# EAGLE library part SPARKFUN.LCD-14072 (library LinnesLab-Displays)
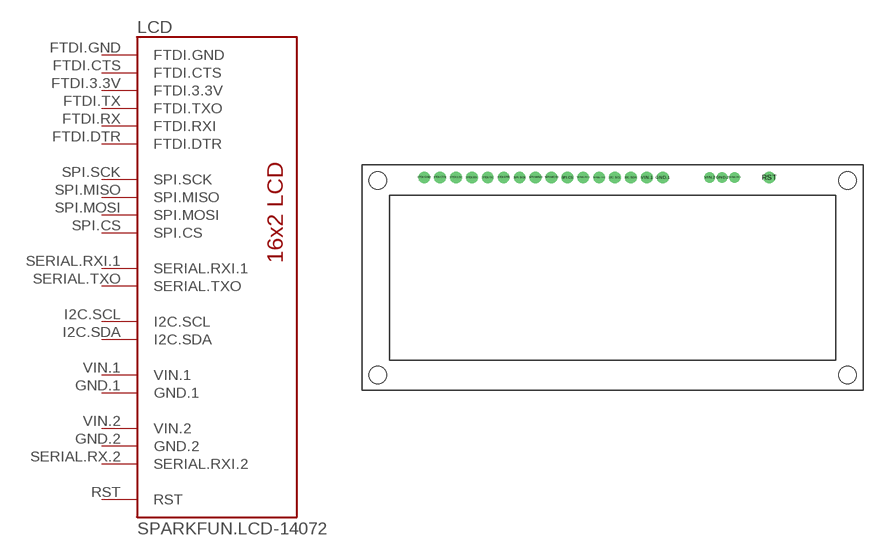
[diagram p4: symbol with the pads of LCD-16X2; footprint LCD-16X2]

Designator prefix LCD

## SPARKFUN.LCD-14072  [LCD-16X2]
FTDI.3.3V  FTDI.3.3V
FTDI.CTS  FTDI.CTS
FTDI.DTR  FTDI.DTR
FTDI.GND  FTDI.GND
FTDI.RX  FTDI.RXI
FTDI.TX  FTDI.TXO
GND.1  GND.1
GND.2  GND.2
I2C.SCL  I2C.SCL
I2C.SDA  I2C.SDA
RST  RST
SERIAL.RX.2  SERIAL.RXI.2
SERIAL.RXI.1  SERIAL.RXI.1
SERIAL.TXO  SERIAL.TXO
SPI.CS  SPI.CS
SPI.MISO  SPI.MISO
SPI.MOSI  SPI.MOSI
SPI.SCK  SPI.SCK
VIN.1  VIN.1
VIN.2  VIN.2

## Footprint LCD-16X2 (pad centres in mm)
LCD-16x2 For Standard hitatchi type LCDs with backlight. Has 16 pin connection, silk outiline, and mounting holes. https://github.com/SparkfunTechSupport/Dimensional-diagrams/blob/master/LCD-14072/SparkFun%2016x2%20SerLCD%20dimensions.jpg Specifications: Pin count: 16 Pin pitch: 0.1" Area: Datasheet referenced for footprint: Example device(s): Basic 16x2 LCD <https://www.sparkfun.com/products/255>
drill 1.016 pad 1.88: FTDI.3.3V -25.02,16; FTDI.CTS -27.56,16; FTDI.DTR -17.4,16; FTDI.GND -30.1,16; FTDI.RX -22.48,16; FTDI.TX -19.94,16; GND.1 8,16; I2C.SCL 0.38,16; I2C.SDA 2.92,16; RST 25,16; SERIAL.RXI.1 -4.7,16; SERIAL.TXO -2.16,16; SPI.CS -7.24,16; SPI.MISO -12.32,16; SPI.MOSI -9.78,16; SPI.SCK -14.86,16; VIN.1 5.46,16
drill 1.016 pad 1.7: GND.2 17.5,16; SERIAL.RX.2 19.5,16; VIN.2 15.5,16
hole 2.8 at -37.5,15.5
hole 2.8 at -37.5,-15.5
hole 2.8 at 37.5,15.5
hole 2.8 at 37.5,-15.5